# Altium footprint library User.PcbLib: 4 footprints
Each footprint in its own frame and in the unit in brackets; x right, y up, seen from the top. Pads: shape width x height; smd on the part's side, far side on the other; paste and mask are expansions set on the pad; w line width, h text height; cw(c..) or ccw(c..) is an arc to the next point about the centre after c.
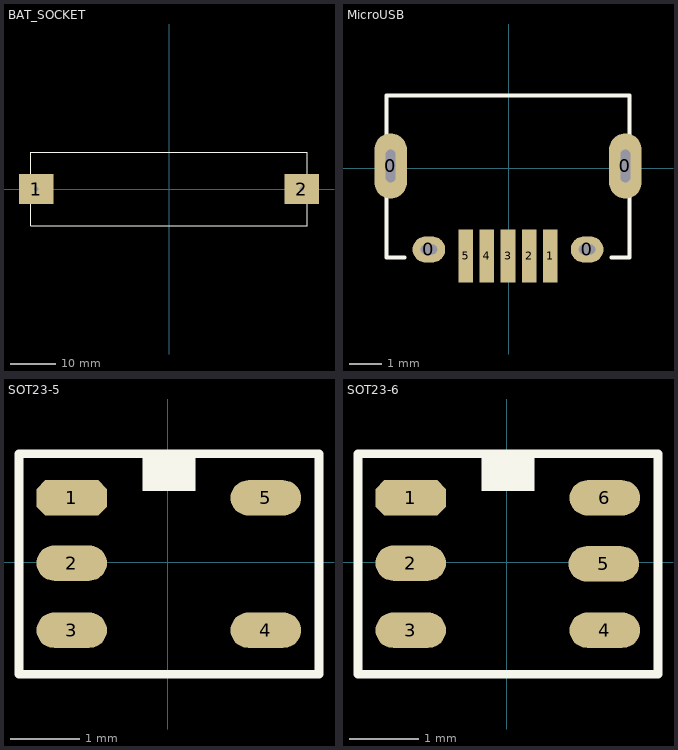
[diagram p0: the footprints below, top view; thin cyan lines are the x and y axes]

## BAT_SOCKET [mil]
pads (2):
  rect 300x260 / inner rect 100x300 / far side rect 100x300 hole 40 square: 1(-1150,0) 2(1150,0)
Top Overlay:
  lines w10: -1200,-320 1200,-320 1200,320 -1200,320 -1200,-320
3D body "BCAAL-SINGLE AA BATHOLDER.SLDPRT": height 572.37, standoff 0, extent -1216.18,-319.99 1216.18,320.01

## MicroUSB [mm]
pads (9):
  oval 1x2 hole 1 slot 0.3 at 0 deg: 0(-3.625,0.076) 0(3.575,0.076)
  oval 1x0.8 hole 0.3 slot 0.5 at 0 deg: 0(-2.45,-2.484) 0(2.4,-2.484)
  rect 0.45x1.622 smd: 1(1.275,-2.684)
  rect 0.45x1.62 smd: 2(0.625,-2.684) 3(-0.025,-2.684) 4(-0.675,-2.684) 5(-1.325,-2.684)
Top Overlay:
  lines w0.127: -3.75,2.21 -3.75,-2.734 -3.2,-2.734 ; -3.75,2.236 3.7,2.236 ; 3.15,-2.734 3.658,-2.734 ; 3.7,-2.734 3.7,2.21
3D body "User Library-MicroUSB-B_Molex_105017-0001.step": height 2.71, standoff -0.59, extent -4.125,-2.574 4.075,2.856

## SOT23-5 [mil]
pads (5):
  oct 40x20 smd: 1(-54.41,36.45)
  oval 40x20 smd: 2(-54.41,-0.55) 3(-54.41,-38.55) 4(55.59,-38.55) 5(55.59,36.45)
Top Overlay:
  rectangle: -14.41,40.39 15.59,60.07
  lines w5: -84.3,47.47 -84.3,48.47 ; -84.3,51.47 -84.3,61.47 ; -70.3,61.47 -68.3,61.47 ; -69.3,61.47 -84.3,61.47 ; -84.3,61.47 -84.3,-63.53 85.7,-63.53 85.7,61.47 -84.3,61.47
3D body "SOT235.step": height 39.37, standoff 0, extent -46.06,-58.02 46.06,56.94

## SOT23-6 [mil]
pads (6):
  oct 40x20 smd: 1(-54.41,36.45)
  oval 40x20 smd: 2(-54.41,-0.55) 3(-54.41,-38.55) 4(55.59,-38.55) 5(55,-0.95) 6(55.59,36.45)
Top Overlay:
  rectangle: -14.41,40.39 15.59,60.07
  lines w5: -84.3,47.47 -84.3,48.47 ; -84.3,51.47 -84.3,61.47 ; -70.3,61.47 -68.3,61.47 ; -69.3,61.47 -84.3,61.47 ; -84.3,61.47 -84.3,-63.53 85.7,-63.53 85.7,61.47 -84.3,61.47
3D body "User Library-SOT23-6.step": height 51.18, standoff 0, extent -59.06,-60 59.06,58.11